# EAGLE library part AD7799 (library analog-devices)
3-Channel, Low Noise, Low Power, 16-/24-Bit Sigma-Delta ADC with On-Chip In-Amp
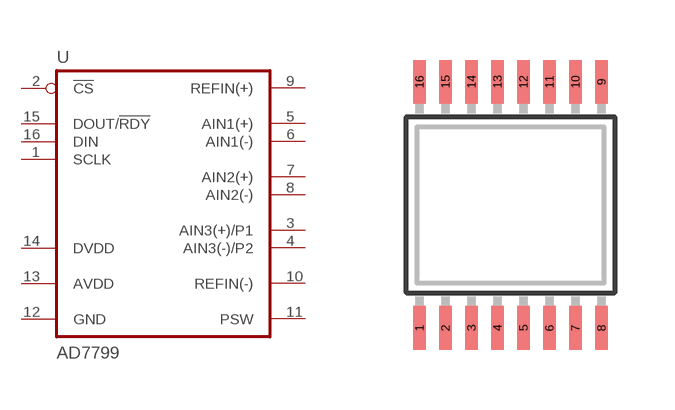
[diagram p28: symbol with the pads of TSSOP16; footprint TSSOP16]

Designator prefix U

## AD7799 (P1I: o)  [TSSOP16]
1  SCLK  in
2  !CS!  in
3  AIN3(+)/P1  in
4  AIN3(-)/P2  in
5  AIN1(+)  in
6  AIN1(-)  in
7  AIN2(+)  in
8  AIN2(-)  in
9  REFIN(+)  in
10  REFIN(-)  in
11  PSW  in
12  GND  pwr
13  AVDD  pwr
14  DVDD  pwr
15  DOUT/!RDY!
16  DIN  in

## Footprint TSSOP16 (pad centres in mm)
Thin Shrink Small Outline Plastic 16
smd 0.31 x 1.1: 1 -2.275,-3.08; 2 -1.625,-3.08; 3 -0.975,-3.08; 4 -0.325,-3.08; 5 0.325,-3.08; 6 0.975,-3.08; 7 1.625,-3.08; 8 2.275,-3.08; 9 2.275,3.08; 10 1.625,3.08; 11 0.975,3.08; 12 0.325,3.08; 13 -0.325,3.08; 14 -0.975,3.08; 15 -1.625,3.08; 16 -2.275,3.08